# EAGLE library part LP3981IMM-3.3 (library eko-parts)
Ultra Low-Dropout CMOS Voltage Regulator
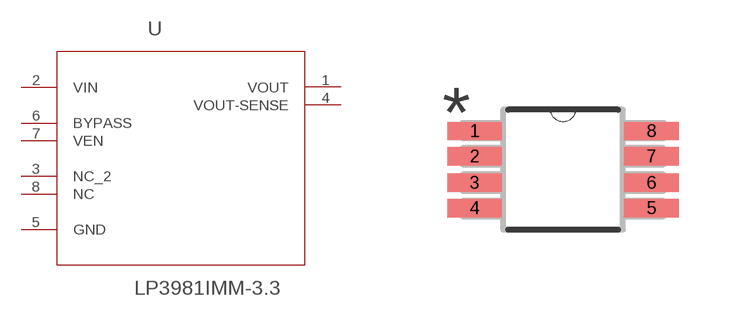
[diagram p10: symbol with the pads of SOP65P490X110-8N; footprint SOP65P490X110-8N]

Designator prefix U

## LP3981IMM-3.3 (MPN: LP3981IMM-3.3; OC_FARNELL: 1685563; OC_NEWARK: 41K7899; PACKAGE: MSOP-8; SUPPLIER: NationalSemiconductor)  [SOP65P490X110-8N]
1  VOUT  out
2  VIN  in
3  NC_2  nc
4  VOUT-SENSE  out
5  GND  pas
6  BYPASS  in
7  VEN  in
8  NC  nc

## Footprint SOP65P490X110-8N (pad centres in mm)
smd 1.372 x 0.457: 1 -2.21,0.965; 2 -2.21,0.33; 3 -2.21,-0.33; 4 -2.21,-0.965; 5 2.21,-0.965; 6 2.21,-0.33; 7 2.21,0.33; 8 2.21,0.965